# EAGLE library part GX4000-CARTCONNECTOR (library arcadetv)
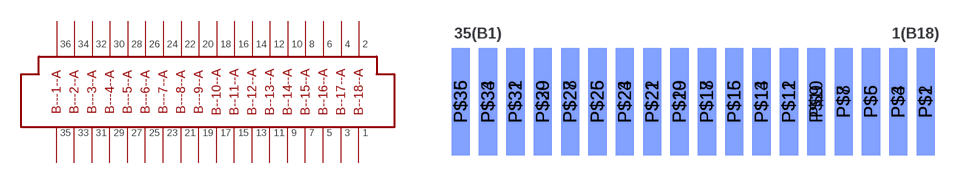
[diagram p10: symbol with the pads of GX4000-CARTCONNECTOR; footprint GX4000-CARTCONNECTOR]

Designator prefix -

## GX4000-CARTCONNECTOR  [GX4000-CARTCONNECTOR]
P$1  P$1
P$2  P$2
P$3  P$3
P$4  P$4
P$5  P$5
P$6  P$6
P$7  P$7
P$8  P$8
P$9  P$9
P$10  P$10
P$11  P$11
P$12  P$12
P$13  P$13
P$14  P$14
P$15  P$15
P$16  P$16
P$17  P$17
P$18  P$18
P$19  P$19
P$20  P$20
P$21  P$21
P$22  P$22
P$23  P$23
P$24  P$24
P$25  P$25
P$26  P$26
P$27  P$27
P$28  P$28
P$29  P$29
P$30  P$30
P$31  P$31
P$32  P$32
P$33  P$33
P$34  P$34
P$35  P$35
P$36  P$36

## Footprint GX4000-CARTCONNECTOR (pad centres in mm)
smd 1.694 x 10: P$1 21.59,5.08; P$3 19.05,5.08; P$5 16.51,5.08; P$7 13.97,5.08; P$9 11.43,5.08; P$11 8.89,5.08; P$13 6.35,5.08; P$15 3.81,5.08; P$17 1.27,5.08; P$19 -1.27,5.08; P$21 -3.81,5.08; P$23 -6.35,5.08; P$25 -8.89,5.08; P$27 -11.43,5.08; P$29 -13.97,5.08; P$31 -16.51,5.08; P$33 -19.05,5.08; P$35 -21.59,5.08
smd 1.694 x 10 bottom: P$2 21.59,5.08; P$4 19.05,5.08; P$6 16.51,5.08; P$8 13.97,5.08; P$10 11.43,5.08; P$12 8.89,5.08; P$14 6.35,5.08; P$16 3.81,5.08; P$18 1.27,5.08; P$20 -1.27,5.08; P$22 -3.81,5.08; P$24 -6.35,5.08; P$26 -8.89,5.08; P$28 -11.43,5.08; P$30 -13.97,5.08; P$32 -16.51,5.08; P$34 -19.05,5.08; P$36 -21.59,5.08